# EAGLE library part BOSCH-BMP280_BMP280 (library NEO-M8N+BMP280 Wing)
The BMP280 is an absolute barometric pressure sensor especially designed for mobile applications. The sensor module is housed in an extremely compact 8-pin metal-lid LGA package with a footprint of only 2.0 × 2.5 mm2 and 0.95 mm package height. Its small dimensions and its low power consumption of 2.7 μA @1Hz allow the implementation in battery driven devices such as mobile phones, GPS modules or watches. The library has been designed by Richard Magdycz <https://www.facebook.com/groups/eaglecadsoftUK>
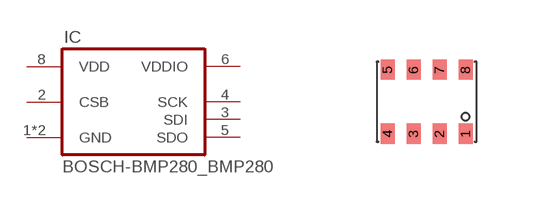
[diagram p1: symbol with the pads of BOSCH-BMP280_BMP280; footprint BOSCH-BMP280_BMP280]

Designator prefix IC

## BOSCH-BMP280_BMP280  [BOSCH-BMP280_BMP280]
1  GND  pwr
2  CSB  in
3  SDI
4  SCK
5  SDO  in
6  VDDIO  pwr
7  GND  pwr
8  VDD  pwr

## Footprint BOSCH-BMP280_BMP280 (pad centres in mm)
2.5 mm x 2.5 mm x 0.93 mm metal lid LGA
smd 0.35 x 0.5: 1 0.975,-0.8; 2 0.325,-0.8; 3 -0.325,-0.8; 4 -0.975,-0.8; 5 -0.975,0.8; 6 -0.325,0.8; 7 0.325,0.8; 8 0.975,0.8